# EAGLE library part W5500 (library angrypig7-IC)
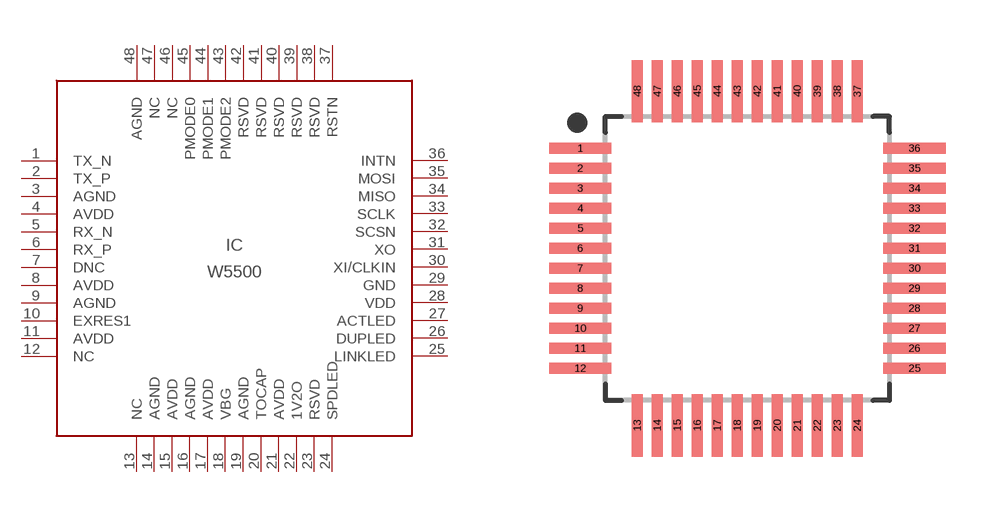
[diagram p13: symbol with the pads of QFP50P900X900X160-48N; footprint QFP50P900X900X160-48N]

Designator prefix IC

## W5500_LQFP-48_50MIL  [QFP50P900X900X160-48N]
1  TX_N
2  TX_P
3  AGND
4  AVDD
5  RX_N
6  RX_P
7  DNC
8  AVDD
9  AGND
10  EXRES1
11  AVDD
12  NC
13  NC
14  AGND
15  AVDD
16  AGND
17  AVDD
18  VBG
19  AGND
20  TOCAP
21  AVDD
22  1V2O
23  RSVD
24  SPDLED
25  LINKLED
26  DUPLED
27  ACTLED
28  VDD
29  GND
30  XI/CLKIN
31  XO
32  SCSN
33  SCLK
34  MISO
35  MOSI
36  INTN
37  RSTN
38  RSVD
39  RSVD
40  RSVD
41  RSVD
42  RSVD
43  PMODE2
44  PMODE1
45  PMODE0
46  NC
47  NC
48  AGND

## Footprint QFP50P900X900X160-48N (pad centres in mm)
48-QFP, 0.50 mm pitch, 9.00 mm span, 7.00 X 7.00 X 1.60 mm body 48-pin QFP package with 0.50 mm pitch, 9.00 mm lead span1 X 9.00 mm lead span2 with body size 7.00 X 7.00 X 1.60 mm
smd 1.559 x 0.28: 1 -4.178,2.75; 2 -4.178,2.25; 3 -4.178,1.75; 4 -4.178,1.25; 5 -4.178,0.75; 6 -4.178,0.25; 7 -4.178,-0.25; 8 -4.178,-0.75; 9 -4.178,-1.25; 10 -4.178,-1.75; 11 -4.178,-2.25; 12 -4.178,-2.75; 25 4.178,-2.75; 26 4.178,-2.25; 27 4.178,-1.75; 28 4.178,-1.25; 29 4.178,-0.75; 30 4.178,-0.25; 31 4.178,0.25; 32 4.178,0.75; 33 4.178,1.25; 34 4.178,1.75; 35 4.178,2.25; 36 4.178,2.75
smd 0.28 x 1.559: 13 -2.75,-4.178; 14 -2.25,-4.178; 15 -1.75,-4.178; 16 -1.25,-4.178; 17 -0.75,-4.178; 18 -0.25,-4.178; 19 0.25,-4.178; 20 0.75,-4.178; 21 1.25,-4.178; 22 1.75,-4.178; 23 2.25,-4.178; 24 2.75,-4.178; 37 2.75,4.178; 38 2.25,4.178; 39 1.75,4.178; 40 1.25,4.178; 41 0.75,4.178; 42 0.25,4.178; 43 -0.25,4.178; 44 -0.75,4.178; 45 -1.25,4.178; 46 -1.75,4.178; 47 -2.25,4.178; 48 -2.75,4.178